# Altium schematic symbol library PFMF.050.2.SchLib: 1 symbol
Pins are listed as number, name and electrical type; pins without a type are passive.

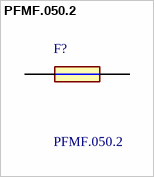
[diagram p0: symbol PFMF.050.2]

## PFMF.050.2
designator F?
SCHURTER - PFMF.050.2 - PPTC Resettable Fuse, SMD, PFMF Series, 500 mA, 1 A, 15 VDC, -40 ?C; Geometry.Height: 0.85mm; Manufacturer_Name: SCHURTER; Manufacturer_Part_Number: PFMF.050.2; Mouser Part Number: 693-PFMF.050.2; Mouser Price/Stock: https://www.mouser.co.uk/ProductDetail/Schurter/PFMF0502?qs=1auRipcfynCums5v1iucSA%3D%3D; Arrow Part Number: *; Arrow Price/Stock: *; Datasheet Link: http://www.schurterinc.com/bundles/snceschurter/epim/_ProdPool_/newDS/en/typ_PFMF.pdf
footprint FUSC4632X85N
pins: 1, 2